# Altium schematic symbol library RK73H2ATTD1001F.SchLib: 1 symbol
Pins are listed as number, name and electrical type; pins without a type are passive.

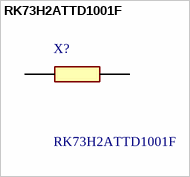
[diagram p0: symbol RK73H2ATTD1001F]

## RK73H2ATTD1001F
designator X?
Thick Film Resistors - SMD 1/8watts 1Kohms 1%; Manufacturer_Name: KOA Speer; Geometry.Height: 0.6mm; Manufacturer_Part_Number: RK73H2ATTD1001F; Mouser Part Number: 660-RK73H2ATTD1001F; Mouser Price/Stock: https://www.mouser.co.uk/ProductDetail/KOA-Speer/RK73H2ATTD1001F?qs=jqs4VlA0UkhWNsyvWbhZPg%3D%3D; Arrow Part Number: RK73H2ATTD1001F; Arrow Price/Stock: https://www.arrow.com/en/products/rk73h2attd1001f/koa-speer-electronics?region=nac; Datasheet Link: http://www.koaspeer.com/catimages/Products/RK73H/RK73H.pdf
footprint RESC2012X60N
pins: 1, 2